# Altium integrated library Capacitor - Aluminium TH.IntLib: 4591 symbols (part 32 of 68)
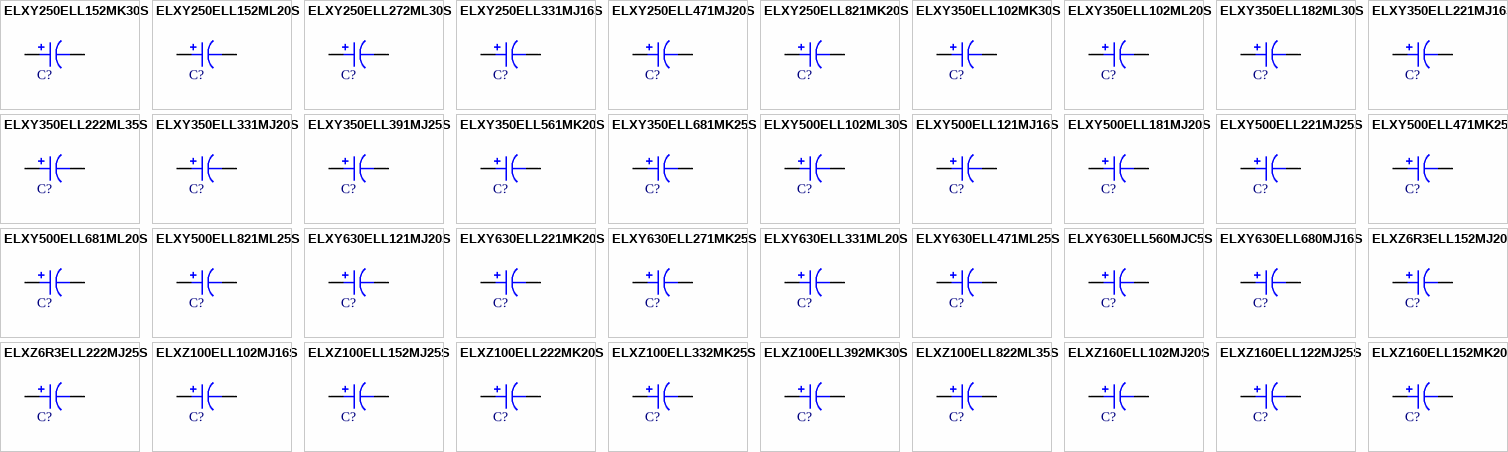
[diagram p145: symbols ELXY250ELL152MK30S to ELXZ160ELL152MK20S]

## ELXY250ELL152ML20S
designator C?, comment 1500uF  (value not drawn)
CAP ALUM 1500UF 20% 25V RADIAL; Part Number: ELXY250ELL152ML20S; Manufacturer: United Chemi-Con; TemperatureRange: -55C ~ 105C; Type: Polar; Ripple Current: 978mA @ 120Hz; Impedance: 38 mOhm; Value: 1500uF; PartId: 26310; Supplier 1: Digi-Key; Supplier Part Number 1: 565-1803-ND; ComponentLink1Description: Datasheet; ComponentLink1URL: http://www.chemi-con.co.jp/cgi-bin/CAT_DB/SEARCH/cat_db_al.cgi?e=e&j=p&pdfname=lxy; ComponentLink2Description: Digi-Key Listing; ComponentLink2URL: https://www.digikey.com/product-detail/en/united-chemi-con/ELXY250ELL152ML20S/565-1803-ND/756319; Tolerance: 20%; Voltage: 25V; Price: 1.17; Device Package: Radial, Can, 16mm
footprint CAP AL TH D16 L7.5 H20
pins: 1, 2

## ELXY250ELL272ML30S
designator C?, comment 2700uF  (value not drawn)
CAP ALUM 2700UF 20% 25V RADIAL; Part Number: ELXY250ELL272ML30S; Manufacturer: United Chemi-Con; TemperatureRange: -55C ~ 105C; Type: Polar; Ripple Current: 1.7625A @ 120Hz; Impedance: 25 mOhm; Value: 2700uF; PartId: 27061; Supplier 1: Digi-Key; Supplier Part Number 1: 565-1807-ND; ComponentLink1Description: Datasheet; ComponentLink1URL: http://www.chemi-con.co.jp/cgi-bin/CAT_DB/SEARCH/cat_db_al.cgi?e=e&j=p&pdfname=lxy; ComponentLink2Description: Digi-Key Listing; ComponentLink2URL: https://www.digikey.com/product-detail/en/united-chemi-con/ELXY250ELL272ML30S/565-1807-ND/756323; Tolerance: 20%; Voltage: 25V; Price: 1.6; Device Package: Radial, Can, 16mm
footprint CAP AL TH D16 L7.5 H33.5
pins: 1, 2

## ELXY250ELL331MJ16S
designator C?, comment 330uF  (value not drawn)
CAP ALUM 330UF 20% 25V RADIAL; Part Number: ELXY250ELL331MJ16S; Manufacturer: United Chemi-Con; TemperatureRange: -55C ~ 105C; Type: Polar; Ripple Current: 412.5mA @ 120Hz; Impedance: 84 mOhm; Value: 330uF; PartId: 25261; Supplier 1: Digi-Key; Supplier Part Number 1: 565-1795-ND; ComponentLink1Description: Datasheet; ComponentLink1URL: http://www.chemi-con.co.jp/cgi-bin/CAT_DB/SEARCH/cat_db_al.cgi?e=e&j=p&pdfname=lxy; ComponentLink2Description: Digi-Key Listing; ComponentLink2URL: https://www.digikey.com/product-detail/en/united-chemi-con/ELXY250ELL331MJ16S/565-1795-ND/756311; Tolerance: 20%; Voltage: 25V; Price: 0.59; Device Package: Radial, Can, 10mm
footprint CAP AL TH D10 L5 H17.5
pins: 1, 2

## ELXY250ELL471MJ20S
designator C?, comment 470uF  (value not drawn)
CAP ALUM 470UF 20% 25V RADIAL; Part Number: ELXY250ELL471MJ20S; Manufacturer: United Chemi-Con; TemperatureRange: -55C ~ 105C; Type: Polar; Ripple Current: 520mA @ 120Hz; Impedance: 62 mOhm; Value: 470uF; PartId: 25587; Supplier 1: Digi-Key; Supplier Part Number 1: 565-1797-ND; ComponentLink1Description: Datasheet; ComponentLink1URL: http://www.chemi-con.co.jp/cgi-bin/CAT_DB/SEARCH/cat_db_al.cgi?e=e&j=p&pdfname=lxy; ComponentLink2Description: Digi-Key Listing; ComponentLink2URL: https://www.digikey.com/product-detail/en/united-chemi-con/ELXY250ELL471MJ20S/565-1797-ND/756313; Tolerance: 20%; Voltage: 25V; Price: 0.68; Device Package: Radial, Can, 10mm
footprint CAP AL TH D10 L5 H22
pins: 1, 2

## ELXY250ELL821MK20S
designator C?, comment 820uF  (value not drawn)
CAP ALUM 820UF 20% 25V RADIAL; Part Number: ELXY250ELL821MK20S; Manufacturer: United Chemi-Con; TemperatureRange: -55C ~ 105C; Type: Polar; Ripple Current: 804mA @ 120Hz; Impedance: 46 mOhm; Value: 820uF; PartId: 22982; Supplier 1: Digi-Key; Supplier Part Number 1: 565-1800-ND; ComponentLink1Description: Datasheet; ComponentLink1URL: http://www.chemi-con.co.jp/cgi-bin/CAT_DB/SEARCH/cat_db_al.cgi?e=e&j=p&pdfname=lxy; ComponentLink2Description: Digi-Key Listing; ComponentLink2URL: https://www.digikey.com/product-detail/en/united-chemi-con/ELXY250ELL821MK20S/565-1800-ND/756316; Tolerance: 20%; Voltage: 25V; Price: 0; Device Package: Radial, Can, 12.5mm
footprint CAP AL TH D12.5 L5 H21.5
pins: 1, 2

## ELXY350ELL102MK30S
designator C?, comment 1000uF  (value not drawn)
CAP ALUM 1000UF 20% 35V RADIAL; Part Number: ELXY350ELL102MK30S; Manufacturer: United Chemi-Con; TemperatureRange: -55C ~ 105C; Type: Polar; Ripple Current: 1.17A @ 120Hz; Impedance: 30 mOhm; Value: 1000uF; PartId: 24263; Supplier 1: Digi-Key; Supplier Part Number 1: 565-1823-ND; ComponentLink1Description: Datasheet; ComponentLink1URL: http://www.chemi-con.co.jp/cgi-bin/CAT_DB/SEARCH/cat_db_al.cgi?e=e&j=p&pdfname=lxy; ComponentLink2Description: Digi-Key Listing; ComponentLink2URL: https://www.digikey.com/product-detail/en/united-chemi-con/ELXY350ELL102MK30S/565-1823-ND/756339; Tolerance: 20%; Voltage: 35V; Price: 1.04; Device Package: Radial, Can, 12.5mm
footprint CAP AL TH D12.5 L5 H35.5
pins: 1, 2

## ELXY350ELL102ML20S
designator C?, comment 1000uF  (value not drawn)
CAP ALUM 1000UF 20% 35V RADIAL; Part Number: ELXY350ELL102ML20S; Manufacturer: United Chemi-Con; TemperatureRange: -55C ~ 105C; Type: Polar; Ripple Current: 978mA @ 120Hz; Impedance: 38 mOhm; Value: 1000uF; PartId: 26313; Supplier 1: Digi-Key; Supplier Part Number 1: 565-1824-ND; ComponentLink1Description: Datasheet; ComponentLink1URL: http://www.chemi-con.co.jp/cgi-bin/CAT_DB/SEARCH/cat_db_al.cgi?e=e&j=p&pdfname=lxy; ComponentLink2Description: Digi-Key Listing; ComponentLink2URL: https://www.digikey.com/product-detail/en/united-chemi-con/ELXY350ELL102ML20S/565-1824-ND/756340; Tolerance: 20%; Voltage: 35V; Price: 1.21; Device Package: Radial, Can, 16mm
footprint CAP AL TH D16 L7.5 H20
pins: 1, 2

## ELXY350ELL182ML30S
designator C?, comment 1800uF  (value not drawn)
CAP ALUM 1800UF 20% 35V RADIAL; Part Number: ELXY350ELL182ML30S; Manufacturer: United Chemi-Con; TemperatureRange: -55C ~ 105C; Type: Polar; Ripple Current: 1.41A @ 120Hz; Impedance: 25 mOhm; Value: 1800uF; PartId: 27030; Supplier 1: Digi-Key; Supplier Part Number 1: 565-1828-ND; ComponentLink1Description: Datasheet; ComponentLink1URL: http://www.chemi-con.co.jp/cgi-bin/CAT_DB/SEARCH/cat_db_al.cgi?e=e&j=p&pdfname=lxy; ComponentLink2Description: Digi-Key Listing; ComponentLink2URL: https://www.digikey.com/product-detail/en/united-chemi-con/ELXY350ELL182ML30S/565-1828-ND/756344; Tolerance: 20%; Voltage: 35V; Price: 1.5; Device Package: Radial, Can, 16mm
footprint CAP AL TH D16 L7.5 H33.5
pins: 1, 2

## ELXY350ELL221MJ16S
designator C?, comment 220uF  (value not drawn)
CAP ALUM 220UF 20% 35V RADIAL; Part Number: ELXY350ELL221MJ16S; Manufacturer: United Chemi-Con; TemperatureRange: -55C ~ 105C; Type: Polar; Ripple Current: 412.5mA @ 120Hz; Impedance: 84 mOhm; Value: 220uF; PartId: 25273; Supplier 1: Digi-Key; Supplier Part Number 1: 565-1816-ND; ComponentLink1Description: Datasheet; ComponentLink1URL: http://www.chemi-con.co.jp/cgi-bin/CAT_DB/SEARCH/cat_db_al.cgi?e=e&j=p&pdfname=lxy; ComponentLink2Description: Digi-Key Listing; ComponentLink2URL: https://www.digikey.com/product-detail/en/united-chemi-con/ELXY350ELL221MJ16S/565-1816-ND/756332; Tolerance: 20%; Voltage: 35V; Price: 0.61; Device Package: Radial, Can, 10mm
footprint CAP AL TH D10 L5 H17.5
pins: 1, 2

## ELXY350ELL222ML35S
designator C?, comment 2200uF  (value not drawn)
CAP ALUM 2200UF 20% 35V RADIAL; Part Number: ELXY350ELL222ML35S; Manufacturer: United Chemi-Con; TemperatureRange: -55C ~ 105C; Type: Polar; Ripple Current: 1.9125A @ 120Hz; Impedance: 22 mOhm; Value: 2200uF; PartId: 27345; Supplier 1: Digi-Key; Supplier Part Number 1: 565-1829-ND; ComponentLink1Description: Datasheet; ComponentLink1URL: http://www.chemi-con.co.jp/cgi-bin/CAT_DB/SEARCH/cat_db_al.cgi?e=e&j=p&pdfname=lxy; ComponentLink2Description: Digi-Key Listing; ComponentLink2URL: https://www.digikey.com/product-detail/en/united-chemi-con/ELXY350ELL222ML35S/565-1829-ND/756345; Tolerance: 20%; Voltage: 35V; Price: 1.7; Device Package: Radial, Can, 16mm
footprint CAP AL TH D16 L7.5 H37
pins: 1, 2

## ELXY350ELL331MJ20S
designator C?, comment 330uF  (value not drawn)
CAP ALUM 330UF 20% 35V RADIAL; Part Number: ELXY350ELL331MJ20S; Manufacturer: United Chemi-Con; TemperatureRange: -55C ~ 105C; Type: Polar; Ripple Current: 520mA @ 120Hz; Impedance: 62 mOhm; Value: 330uF; PartId: 25607; Supplier 1: Digi-Key; Supplier Part Number 1: 565-1818-ND; ComponentLink1Description: Datasheet; ComponentLink1URL: http://www.chemi-con.co.jp/cgi-bin/CAT_DB/SEARCH/cat_db_al.cgi?e=e&j=p&pdfname=lxy; ComponentLink2Description: Digi-Key Listing; ComponentLink2URL: https://www.digikey.com/product-detail/en/united-chemi-con/ELXY350ELL331MJ20S/565-1818-ND/756334; Tolerance: 20%; Voltage: 35V; Price: 0.69; Device Package: Radial, Can, 10mm
footprint CAP AL TH D10 L5 H22
pins: 1, 2

## ELXY350ELL391MJ25S
designator C?, comment 390uF  (value not drawn)
CAP ALUM 390UF 20% 35V RADIAL; Part Number: ELXY350ELL391MJ25S; Manufacturer: United Chemi-Con; TemperatureRange: -55C ~ 105C; Type: Polar; Ripple Current: 630mA @ 120Hz; Impedance: 52 mOhm; Value: 390uF; PartId: 26066; Supplier 1: Digi-Key; Supplier Part Number 1: 565-1819-ND; ComponentLink1Description: Datasheet; ComponentLink1URL: http://www.chemi-con.co.jp/cgi-bin/CAT_DB/SEARCH/cat_db_al.cgi?e=e&j=p&pdfname=lxy; ComponentLink2Description: Digi-Key Listing; ComponentLink2URL: https://www.digikey.com/product-detail/en/united-chemi-con/ELXY350ELL391MJ25S/565-1819-ND/756335; Tolerance: 20%; Voltage: 35V; Price: 0.69; Device Package: Radial, Can, 10mm
footprint CAP AL TH D10 L5 H30
pins: 1, 2

## ELXY350ELL561MK20S
designator C?, comment 560uF  (value not drawn)
CAP ALUM 560UF 20% 35V RADIAL; Part Number: ELXY350ELL561MK20S; Manufacturer: United Chemi-Con; TemperatureRange: -55C ~ 105C; Type: Polar; Ripple Current: 670mA @ 120Hz; Impedance: 46 mOhm; Value: 560uF; PartId: 22989; Supplier 1: Digi-Key; Supplier Part Number 1: 565-1821-ND; ComponentLink1Description: Datasheet; ComponentLink1URL: http://www.chemi-con.co.jp/cgi-bin/CAT_DB/SEARCH/cat_db_al.cgi?e=e&j=p&pdfname=lxy; ComponentLink2Description: Digi-Key Listing; ComponentLink2URL: https://www.digikey.com/product-detail/en/united-chemi-con/ELXY350ELL561MK20S/565-1821-ND/756337; Tolerance: 20%; Voltage: 35V; Price: 0; Device Package: Radial, Can, 12.5mm
footprint CAP AL TH D12.5 L5 H21.5
pins: 1, 2

## ELXY350ELL681MK25S
designator C?, comment 680uF  (value not drawn)
CAP ALUM 680UF 20% 35V RADIAL; Part Number: ELXY350ELL681MK25S; Manufacturer: United Chemi-Con; TemperatureRange: -55C ~ 105C; Type: Polar; Ripple Current: 1.014A @ 120Hz; Impedance: 34 mOhm; Value: 680uF; PartId: 23688; Supplier 1: Digi-Key; Supplier Part Number 1: 565-1822-ND; ComponentLink1Description: Datasheet; ComponentLink1URL: http://www.chemi-con.co.jp/cgi-bin/CAT_DB/SEARCH/cat_db_al.cgi?e=e&j=p&pdfname=lxy; ComponentLink2Description: Digi-Key Listing; ComponentLink2URL: https://www.digikey.com/product-detail/en/united-chemi-con/ELXY350ELL681MK25S/565-1822-ND/756338; Tolerance: 20%; Voltage: 35V; Price: 1.04; Device Package: Radial, Can, 12.5mm
footprint CAP AL TH D12.5 L5 H26.5
pins: 1, 2

## ELXY500ELL102ML30S
designator C?, comment 1000uF  (value not drawn)
CAP ALUM 1000UF 20% 50V RADIAL; Part Number: ELXY500ELL102ML30S; Manufacturer: United Chemi-Con; TemperatureRange: -55C ~ 105C; Type: Polar; Ripple Current: 1.29A @ 120Hz; Impedance: 30 mOhm; Value: 1000uF; PartId: 27025; Supplier 1: Digi-Key; Supplier Part Number 1: 565-1849-ND; ComponentLink1Description: Datasheet; ComponentLink1URL: http://www.chemi-con.co.jp/cgi-bin/CAT_DB/SEARCH/cat_db_al.cgi?e=e&j=p&pdfname=lxy; ComponentLink2Description: Digi-Key Listing; ComponentLink2URL: https://www.digikey.com/product-detail/en/united-chemi-con/ELXY500ELL102ML30S/565-1849-ND/756365; Tolerance: 20%; Voltage: 50V; Price: 1.48; Device Package: Radial, Can, 16mm
footprint CAP AL TH D16 L7.5 H33.5
pins: 1, 2

## ELXY500ELL121MJ16S
designator C?, comment 120uF  (value not drawn)
CAP ALUM 120UF 20% 50V RADIAL; Part Number: ELXY500ELL121MJ16S; Manufacturer: United Chemi-Con; TemperatureRange: -55C ~ 105C; Type: Polar; Ripple Current: 302mA @ 120Hz; Impedance: 130 mOhm; Value: 120uF; PartId: 25266; Supplier 1: Digi-Key; Supplier Part Number 1: 565-1837-ND; ComponentLink1Description: Datasheet; ComponentLink1URL: http://www.chemi-con.co.jp/cgi-bin/CAT_DB/SEARCH/cat_db_al.cgi?e=e&j=p&pdfname=lxy; ComponentLink2Description: Digi-Key Listing; ComponentLink2URL: https://www.digikey.com/product-detail/en/united-chemi-con/ELXY500ELL121MJ16S/565-1837-ND/756353; Tolerance: 20%; Voltage: 50V; Price: 0.6; Device Package: Radial, Can, 10mm
footprint CAP AL TH D10 L5 H17.5
pins: 1, 2

## ELXY500ELL181MJ20S
designator C?, comment 180uF  (value not drawn)
CAP ALUM 180UF 20% 50V RADIAL; Part Number: ELXY500ELL181MJ20S; Manufacturer: United Chemi-Con; TemperatureRange: -55C ~ 105C; Type: Polar; Ripple Current: 378mA @ 120Hz; Impedance: 88 mOhm; Value: 180uF; PartId: 25602; Supplier 1: Digi-Key; Supplier Part Number 1: 565-1839-ND; ComponentLink1Description: Datasheet; ComponentLink1URL: http://www.chemi-con.co.jp/cgi-bin/CAT_DB/SEARCH/cat_db_al.cgi?e=e&j=p&pdfname=lxy; ComponentLink2Description: Digi-Key Listing; ComponentLink2URL: https://www.digikey.com/product-detail/en/united-chemi-con/ELXY500ELL181MJ20S/565-1839-ND/756355; Tolerance: 20%; Voltage: 50V; Price: 0.69; Device Package: Radial, Can, 10mm
footprint CAP AL TH D10 L5 H22
pins: 1, 2

## ELXY500ELL221MJ25S
designator C?, comment 220uF  (value not drawn)
CAP ALUM 220UF 20% 50V RADIAL; Part Number: ELXY500ELL221MJ25S; Manufacturer: United Chemi-Con; TemperatureRange: -55C ~ 105C; Type: Polar; Ripple Current: 575mA @ 120Hz; Impedance: 73 mOhm; Value: 220uF; PartId: 26062; Supplier 1: Digi-Key; Supplier Part Number 1: 565-1840-ND; ComponentLink1Description: Datasheet; ComponentLink1URL: http://www.chemi-con.co.jp/cgi-bin/CAT_DB/SEARCH/cat_db_al.cgi?e=e&j=p&pdfname=lxy; ComponentLink2Description: Digi-Key Listing; ComponentLink2URL: https://www.digikey.com/product-detail/en/united-chemi-con/ELXY500ELL221MJ25S/565-1840-ND/756356; Tolerance: 20%; Voltage: 50V; Price: 0.68; Device Package: Radial, Can, 10mm
footprint CAP AL TH D10 L5 H30
pins: 1, 2

## ELXY500ELL471MK25S
designator C?, comment 470uF  (value not drawn)
CAP ALUM 470UF 20% 50V RADIAL; Part Number: ELXY500ELL471MK25S; Manufacturer: United Chemi-Con; TemperatureRange: -55C ~ 105C; Type: Polar; Ripple Current: 745mA @ 120Hz; Impedance: 44 mOhm; Value: 470uF; PartId: 23678; Supplier 1: Digi-Key; Supplier Part Number 1: 565-1843-ND; ComponentLink1Description: Datasheet; ComponentLink1URL: http://www.chemi-con.co.jp/cgi-bin/CAT_DB/SEARCH/cat_db_al.cgi?e=e&j=p&pdfname=lxy; ComponentLink2Description: Digi-Key Listing; ComponentLink2URL: https://www.digikey.com/product-detail/en/united-chemi-con/ELXY500ELL471MK25S/565-1843-ND/756359; Tolerance: 20%; Voltage: 50V; Price: 1.02; Device Package: Radial, Can, 12.5mm
footprint CAP AL TH D12.5 L5 H26.5
pins: 1, 2

## ELXY500ELL681ML20S
designator C?, comment 680uF  (value not drawn)
CAP ALUM 680UF 20% 50V RADIAL; Part Number: ELXY500ELL681ML20S; Manufacturer: United Chemi-Con; TemperatureRange: -55C ~ 105C; Type: Polar; Ripple Current: 852mA @ 120Hz; Impedance: 50 mOhm; Value: 680uF; PartId: 26314; Supplier 1: Digi-Key; Supplier Part Number 1: 565-1846-ND; ComponentLink1Description: Datasheet; ComponentLink1URL: http://www.chemi-con.co.jp/cgi-bin/CAT_DB/SEARCH/cat_db_al.cgi?e=e&j=p&pdfname=lxy; ComponentLink2Description: Digi-Key Listing; ComponentLink2URL: https://www.digikey.com/product-detail/en/united-chemi-con/ELXY500ELL681ML20S/565-1846-ND/756362; Tolerance: 20%; Voltage: 50V; Price: 1.23; Device Package: Radial, Can, 16mm
footprint CAP AL TH D16 L7.5 H20
pins: 1, 2

## ELXY500ELL821ML25S
designator C?, comment 820uF  (value not drawn)
CAP ALUM 820UF 20% 50V RADIAL; Part Number: ELXY500ELL821ML25S; Manufacturer: United Chemi-Con; TemperatureRange: -55C ~ 105C; Type: Polar; Ripple Current: 1.128A @ 120Hz; Impedance: 34 mOhm; Value: 820uF; PartId: 26612; Supplier 1: Digi-Key; Supplier Part Number 1: 565-1848-ND; ComponentLink1Description: Datasheet; ComponentLink1URL: http://www.chemi-con.co.jp/cgi-bin/CAT_DB/SEARCH/cat_db_al.cgi?e=e&j=p&pdfname=lxy; ComponentLink2Description: Digi-Key Listing; ComponentLink2URL: https://www.digikey.com/product-detail/en/united-chemi-con/ELXY500ELL821ML25S/565-1848-ND/756364; Tolerance: 20%; Voltage: 50V; Price: 1.38; Device Package: Radial, Can, 16mm
footprint CAP AL TH D16 L7.5 H26.5
pins: 1, 2

## ELXY630ELL121MJ20S
designator C?, comment 120uF  (value not drawn)
CAP ALUM 120UF 20% 63V RADIAL; Part Number: ELXY630ELL121MJ20S; Manufacturer: United Chemi-Con; TemperatureRange: -55C ~ 105C; Type: Polar; Ripple Current: 260mA @ 120Hz; Impedance: 160 mOhm; Value: 120uF; PartId: 25521; Supplier 1: Digi-Key; Supplier Part Number 1: 565-1860-ND; ComponentLink1Description: Datasheet; ComponentLink1URL: http://www.chemi-con.co.jp/cgi-bin/CAT_DB/SEARCH/cat_db_al.cgi?e=e&j=p&pdfname=lxy; ComponentLink2Description: Digi-Key Listing; ComponentLink2URL: https://www.digikey.com/product-detail/en/united-chemi-con/ELXY630ELL121MJ20S/565-1860-ND/756376; Tolerance: 20%; Voltage: 63V; Price: 0.59; Device Package: Radial, Can, 10mm
footprint CAP AL TH D10 L5 H22
pins: 1, 2

## ELXY630ELL221MK20S
designator C?, comment 220uF  (value not drawn)
CAP ALUM 220UF 20% 63V RADIAL; Part Number: ELXY630ELL221MK20S; Manufacturer: United Chemi-Con; TemperatureRange: -55C ~ 105C; Type: Polar; Ripple Current: 435mA @ 120Hz; Impedance: 110 mOhm; Value: 220uF; PartId: 22966; Supplier 1: Digi-Key; Supplier Part Number 1: 565-1863-ND; ComponentLink1Description: Datasheet; ComponentLink1URL: http://www.chemi-con.co.jp/cgi-bin/CAT_DB/SEARCH/cat_db_al.cgi?e=e&j=p&pdfname=lxy; ComponentLink2Description: Digi-Key Listing; ComponentLink2URL: https://www.digikey.com/product-detail/en/united-chemi-con/ELXY630ELL221MK20S/565-1863-ND/756379; Tolerance: 20%; Voltage: 63V; Price: 0; Device Package: Radial, Can, 12.5mm
footprint CAP AL TH D12.5 L5 H21.5
pins: 1, 2

## ELXY630ELL271MK25S
designator C?, comment 270uF  (value not drawn)
CAP ALUM 270UF 20% 63V RADIAL; Part Number: ELXY630ELL271MK25S; Manufacturer: United Chemi-Con; TemperatureRange: -55C ~ 105C; Type: Polar; Ripple Current: 575mA @ 120Hz; Impedance: 74 mOhm; Value: 270uF; PartId: 23653; Supplier 1: Digi-Key; Supplier Part Number 1: 565-1864-ND; ComponentLink1Description: Datasheet; ComponentLink1URL: http://www.chemi-con.co.jp/cgi-bin/CAT_DB/SEARCH/cat_db_al.cgi?e=e&j=p&pdfname=lxy; ComponentLink2Description: Digi-Key Listing; ComponentLink2URL: https://www.digikey.com/product-detail/en/united-chemi-con/ELXY630ELL271MK25S/565-1864-ND/756380; Tolerance: 20%; Voltage: 63V; Price: 0.86; Device Package: Radial, Can, 12.5mm
footprint CAP AL TH D12.5 L5 H26.5
pins: 1, 2

## ELXY630ELL331ML20S
designator C?, comment 330uF  (value not drawn)
CAP ALUM 330UF 20% 63V RADIAL; Part Number: ELXY630ELL331ML20S; Manufacturer: United Chemi-Con; TemperatureRange: -55C ~ 105C; Type: Polar; Ripple Current: 550mA @ 120Hz; Impedance: 85 mOhm; Value: 330uF; PartId: 26288; Supplier 1: Digi-Key; Supplier Part Number 1: 565-1865-ND; ComponentLink1Description: Datasheet; ComponentLink1URL: http://www.chemi-con.co.jp/cgi-bin/CAT_DB/SEARCH/cat_db_al.cgi?e=e&j=p&pdfname=lxy; ComponentLink2Description: Digi-Key Listing; ComponentLink2URL: https://www.digikey.com/product-detail/en/united-chemi-con/ELXY630ELL331ML20S/565-1865-ND/756381; Tolerance: 20%; Voltage: 63V; Price: 1.05; Device Package: Radial, Can, 16mm
footprint CAP AL TH D16 L7.5 H20
pins: 1, 2

## ELXY630ELL471ML25S
designator C?, comment 470uF  (value not drawn)
CAP ALUM 470UF 20% 63V RADIAL; Part Number: ELXY630ELL471ML25S; Manufacturer: United Chemi-Con; TemperatureRange: -55C ~ 105C; Type: Polar; Ripple Current: 740mA @ 120Hz; Impedance: 55 mOhm; Value: 470uF; PartId: 26569; Supplier 1: Digi-Key; Supplier Part Number 1: 565-1868-ND; ComponentLink1Description: Datasheet; ComponentLink1URL: http://www.chemi-con.co.jp/cgi-bin/CAT_DB/SEARCH/cat_db_al.cgi?e=e&j=p&pdfname=lxy; ComponentLink2Description: Digi-Key Listing; ComponentLink2URL: https://www.digikey.com/product-detail/en/united-chemi-con/ELXY630ELL471ML25S/565-1868-ND/756384; Tolerance: 20%; Voltage: 63V; Price: 1.17; Device Package: Radial, Can, 16mm
footprint CAP AL TH D16 L7.5 H26.5
pins: 1, 2

## ELXY630ELL560MJC5S
designator C?, comment 56uF  (value not drawn)
CAP ALUM 56UF 20% 63V RADIAL; Part Number: ELXY630ELL560MJC5S; Manufacturer: United Chemi-Con; TemperatureRange: -55C ~ 105C; Type: Polar; Ripple Current: 167.2mA @ 120Hz; Impedance: 270 mOhm; Value: 56uF; PartId: 24876; Supplier 1: Digi-Key; Supplier Part Number 1: 565-1856-ND; ComponentLink1Description: Datasheet; ComponentLink1URL: http://www.chemi-con.co.jp/cgi-bin/CAT_DB/SEARCH/cat_db_al.cgi?e=e&j=p&pdfname=lxy; ComponentLink2Description: Digi-Key Listing; ComponentLink2URL: https://www.digikey.com/product-detail/en/united-chemi-con/ELXY630ELL560MJC5S/565-1856-ND/756372; Tolerance: 20%; Voltage: 63V; Price: 0.48; Device Package: Radial, Can, 10mm
footprint CAP AL TH D10 L5 H14.5
pins: 1, 2

## ELXY630ELL680MJ16S
designator C?, comment 68uF  (value not drawn)
CAP ALUM 68UF 20% 63V RADIAL; Part Number: ELXY630ELL680MJ16S; Manufacturer: United Chemi-Con; TemperatureRange: -55C ~ 105C; Type: Polar; Ripple Current: 210mA @ 120Hz; Impedance: 210 mOhm; Value: 68uF; PartId: 25239; Supplier 1: Digi-Key; Supplier Part Number 1: 565-1857-ND; ComponentLink1Description: Datasheet; ComponentLink1URL: http://www.chemi-con.co.jp/cgi-bin/CAT_DB/SEARCH/cat_db_al.cgi?e=e&j=p&pdfname=lxy; ComponentLink2Description: Digi-Key Listing; ComponentLink2URL: https://www.digikey.com/product-detail/en/united-chemi-con/ELXY630ELL680MJ16S/565-1857-ND/756373; Tolerance: 20%; Voltage: 63V; Price: 0.56; Device Package: Radial, Can, 10mm
footprint CAP AL TH D10 L5 H17.5
pins: 1, 2

## ELXZ6R3ELL152MJ20S
designator C?, comment 1500uF  (value not drawn)
CAP ALUM 1500UF 20% 6.3V RADIAL; Part Number: ELXZ6R3ELL152MJ20S; Manufacturer: United Chemi-Con; TemperatureRange: -55C ~ 105C; Type: Polar; Ripple Current: 732mA @ 120Hz; Impedance: 52 mOhm; Value: 1500uF; PartId: 25539; Supplier 1: Digi-Key; Supplier Part Number 1: 565-1881-ND; ComponentLink1Description: Datasheet; ComponentLink1URL: http://www.chemi-con.co.jp/cgi-bin/CAT_DB/SEARCH/cat_db_al.cgi?e=e&j=p&pdfname=lxz; ComponentLink2Description: Digi-Key Listing; ComponentLink2URL: https://www.digikey.com/product-detail/en/united-chemi-con/ELXZ6R3ELL152MJ20S/565-1881-ND/756397; Tolerance: 20%; Voltage: 6.3V; Price: 0.62; Device Package: Radial, Can, 10mm
footprint CAP AL TH D10 L5 H22
pins: 1, 2

## ELXZ6R3ELL222MJ25S
designator C?, comment 2200uF  (value not drawn)
CAP ALUM 2200UF 20% 6.3V RADIAL; Part Number: ELXZ6R3ELL222MJ25S; Manufacturer: United Chemi-Con; TemperatureRange: -55C ~ 105C; Type: Polar; Ripple Current: 1.08A @ 120Hz; Impedance: 45 mOhm; Value: 2200uF; PartId: 26103; Supplier 1: Digi-Key; Supplier Part Number 1: 565-1882-ND; ComponentLink1Description: Datasheet; ComponentLink1URL: http://www.chemi-con.co.jp/cgi-bin/CAT_DB/SEARCH/cat_db_al.cgi?e=e&j=p&pdfname=lxz; ComponentLink2Description: Digi-Key Listing; ComponentLink2URL: https://www.digikey.com/product-detail/en/united-chemi-con/ELXZ6R3ELL222MJ25S/565-1882-ND/756398; Tolerance: 20%; Voltage: 6.3V; Price: 0.76; Device Package: Radial, Can, 10mm
footprint CAP AL TH D10 L5 H30
pins: 1, 2

## ELXZ100ELL102MJ16S
designator C?, comment 1000uF  (value not drawn)
CAP ALUM 1000UF 20% 10V RADIAL; Part Number: ELXZ100ELL102MJ16S; Manufacturer: United Chemi-Con; TemperatureRange: -55C ~ 105C; Type: Polar; Ripple Current: 630mA @ 120Hz; Impedance: 68 mOhm; Value: 1000uF; PartId: 25307; Supplier 1: Digi-Key; Supplier Part Number 1: 565-1905-ND; ComponentLink1Description: Datasheet; ComponentLink1URL: http://www.chemi-con.co.jp/cgi-bin/CAT_DB/SEARCH/cat_db_al.cgi?e=e&j=p&pdfname=lxz; ComponentLink2Description: Digi-Key Listing; ComponentLink2URL: https://www.digikey.com/product-detail/en/united-chemi-con/ELXZ100ELL102MJ16S/565-1905-ND/756421; Tolerance: 20%; Voltage: 10V; Price: 0.65; Device Package: Radial, Can, 10mm
footprint CAP AL TH D10 L5 H17.5
pins: 1, 2

## ELXZ100ELL152MJ25S
designator C?, comment 1500uF  (value not drawn)
CAP ALUM 1500UF 20% 10V RADIAL; Part Number: ELXZ100ELL152MJ25S; Manufacturer: United Chemi-Con; TemperatureRange: -55C ~ 105C; Type: Polar; Ripple Current: 864mA @ 120Hz; Impedance: 45 mOhm; Value: 1500uF; PartId: 26107; Supplier 1: Digi-Key; Supplier Part Number 1: 565-1908-ND; ComponentLink1Description: Datasheet; ComponentLink1URL: http://www.chemi-con.co.jp/cgi-bin/CAT_DB/SEARCH/cat_db_al.cgi?e=e&j=p&pdfname=lxz; ComponentLink2Description: Digi-Key Listing; ComponentLink2URL: https://www.digikey.com/product-detail/en/united-chemi-con/ELXZ100ELL152MJ25S/565-1908-ND/756424; Tolerance: 20%; Voltage: 10V; Price: 0.76; Device Package: Radial, Can, 10mm
footprint CAP AL TH D10 L5 H30
pins: 1, 2

## ELXZ100ELL222MK20S
designator C?, comment 2200uF  (value not drawn)
CAP ALUM 2200UF 20% 10V RADIAL; Part Number: ELXZ100ELL222MK20S; Manufacturer: United Chemi-Con; TemperatureRange: -55C ~ 105C; Type: Polar; Ripple Current: 1.245A @ 120Hz; Impedance: 38 mOhm; Value: 2200uF; PartId: 23000; Supplier 1: Digi-Key; Supplier Part Number 1: 565-1910-ND; ComponentLink1Description: Datasheet; ComponentLink1URL: http://www.chemi-con.co.jp/cgi-bin/CAT_DB/SEARCH/cat_db_al.cgi?e=e&j=p&pdfname=lxz; ComponentLink2Description: Digi-Key Listing; ComponentLink2URL: https://www.digikey.com/product-detail/en/united-chemi-con/ELXZ100ELL222MK20S/565-1910-ND/756426; Tolerance: 20%; Voltage: 10V; Price: 0; Device Package: Radial, Can, 12.5mm
footprint CAP AL TH D12.5 L5 H21.5
pins: 1, 2

## ELXZ100ELL332MK25S
designator C?, comment 3300uF  (value not drawn)
CAP ALUM 3300UF 20% 10V RADIAL; Part Number: ELXZ100ELL332MK25S; Manufacturer: United Chemi-Con; TemperatureRange: -55C ~ 105C; Type: Polar; Ripple Current: 1.4625A @ 120Hz; Impedance: 30 mOhm; Value: 3300uF; PartId: 23680; Supplier 1: Digi-Key; Supplier Part Number 1: 565-1911-ND; ComponentLink1Description: Datasheet; ComponentLink1URL: http://www.chemi-con.co.jp/cgi-bin/CAT_DB/SEARCH/cat_db_al.cgi?e=e&j=p&pdfname=lxz; ComponentLink2Description: Digi-Key Listing; ComponentLink2URL: https://www.digikey.com/product-detail/en/united-chemi-con/ELXZ100ELL332MK25S/565-1911-ND/756427; Tolerance: 20%; Voltage: 10V; Price: 1.02; Device Package: Radial, Can, 12.5mm
footprint CAP AL TH D12.5 L5 H26.5
pins: 1, 2

## ELXZ100ELL392MK30S
designator C?, comment 3900uF  (value not drawn)
CAP ALUM 3900UF 20% 10V RADIAL; Part Number: ELXZ100ELL392MK30S; Manufacturer: United Chemi-Con; TemperatureRange: -55C ~ 105C; Type: Polar; Ripple Current: 1.7325A @ 120Hz; Impedance: 25 mOhm; Value: 3900uF; PartId: 24289; Supplier 1: Digi-Key; Supplier Part Number 1: 565-1912-ND; ComponentLink1Description: Datasheet; ComponentLink1URL: http://www.chemi-con.co.jp/cgi-bin/CAT_DB/SEARCH/cat_db_al.cgi?e=e&j=p&pdfname=lxz; ComponentLink2Description: Digi-Key Listing; ComponentLink2URL: https://www.digikey.com/product-detail/en/united-chemi-con/ELXZ100ELL392MK30S/565-1912-ND/756428; Tolerance: 20%; Voltage: 10V; Price: 1.12; Device Package: Radial, Can, 12.5mm
footprint CAP AL TH D12.5 L5 H35.5
pins: 1, 2

## ELXZ100ELL822ML35S
designator C?, comment 8200uF  (value not drawn)
CAP ALUM 8200UF 20% 10V RADIAL; Part Number: ELXZ100ELL822ML35S; Manufacturer: United Chemi-Con; TemperatureRange: -55C ~ 105C; Type: Polar; Ripple Current: 2.6775A @ 120Hz; Impedance: 17 mOhm; Value: 8200uF; PartId: 27347; Supplier 1: Digi-Key; Supplier Part Number 1: 565-1920-ND; ComponentLink1Description: Datasheet; ComponentLink1URL: http://www.chemi-con.co.jp/cgi-bin/CAT_DB/SEARCH/cat_db_al.cgi?e=e&j=p&pdfname=lxz; ComponentLink2Description: Digi-Key Listing; ComponentLink2URL: https://www.digikey.com/product-detail/en/united-chemi-con/ELXZ100ELL822ML35S/565-1920-ND/756436; Tolerance: 20%; Voltage: 10V; Price: 1.71; Device Package: Radial, Can, 16mm
footprint CAP AL TH D16 L7.5 H37
pins: 1, 2

## ELXZ160ELL102MJ20S
designator C?, comment 1000uF  (value not drawn)
CAP ALUM 1000UF 20% 16V RADIAL; Part Number: ELXZ160ELL102MJ20S; Manufacturer: United Chemi-Con; TemperatureRange: -55C ~ 105C; Type: Polar; Ripple Current: 732mA @ 120Hz; Impedance: 52 mOhm; Value: 1000uF; PartId: 25648; Supplier 1: Digi-Key; Supplier Part Number 1: 565-1933-ND; ComponentLink1Description: Datasheet; ComponentLink1URL: http://www.chemi-con.co.jp/cgi-bin/CAT_DB/SEARCH/cat_db_al.cgi?e=e&j=p&pdfname=lxz; ComponentLink2Description: Digi-Key Listing; ComponentLink2URL: https://www.digikey.com/product-detail/en/united-chemi-con/ELXZ160ELL102MJ20S/565-1933-ND/756449; Tolerance: 20%; Voltage: 16V; Price: 0.74; Device Package: Radial, Can, 10mm
footprint CAP AL TH D10 L5 H22
pins: 1, 2

## ELXZ160ELL122MJ25S
designator C?, comment 1200uF  (value not drawn)
CAP ALUM 1200UF 20% 16V RADIAL; Part Number: ELXZ160ELL122MJ25S; Manufacturer: United Chemi-Con; TemperatureRange: -55C ~ 105C; Type: Polar; Ripple Current: 864mA @ 120Hz; Impedance: 45 mOhm; Value: 1200uF; PartId: 26105; Supplier 1: Digi-Key; Supplier Part Number 1: 565-1934-ND; ComponentLink1Description: Datasheet; ComponentLink1URL: http://www.chemi-con.co.jp/cgi-bin/CAT_DB/SEARCH/cat_db_al.cgi?e=e&j=p&pdfname=lxz; ComponentLink2Description: Digi-Key Listing; ComponentLink2URL: https://www.digikey.com/product-detail/en/united-chemi-con/ELXZ160ELL122MJ25S/565-1934-ND/756450; Tolerance: 20%; Voltage: 16V; Price: 0.76; Device Package: Radial, Can, 10mm
footprint CAP AL TH D10 L5 H30
pins: 1, 2

## ELXZ160ELL152MK20S
designator C?, comment 1500uF  (value not drawn)
CAP ALUM 1500UF 20% 16V RADIAL; Part Number: ELXZ160ELL152MK20S; Manufacturer: United Chemi-Con; TemperatureRange: -55C ~ 105C; Type: Polar; Ripple Current: 996mA @ 120Hz; Impedance: 38 mOhm; Value: 1500uF; PartId: 23003; Supplier 1: Digi-Key; Supplier Part Number 1: 565-1936-ND; ComponentLink1Description: Datasheet; ComponentLink1URL: http://www.chemi-con.co.jp/cgi-bin/CAT_DB/SEARCH/cat_db_al.cgi?e=e&j=p&pdfname=lxz; ComponentLink2Description: Digi-Key Listing; ComponentLink2URL: https://www.digikey.com/product-detail/en/united-chemi-con/ELXZ160ELL152MK20S/565-1936-ND/756452; Tolerance: 20%; Voltage: 16V; Price: 0; Device Package: Radial, Can, 12.5mm
footprint CAP AL TH D12.5 L5 H21.5
pins: 1, 2

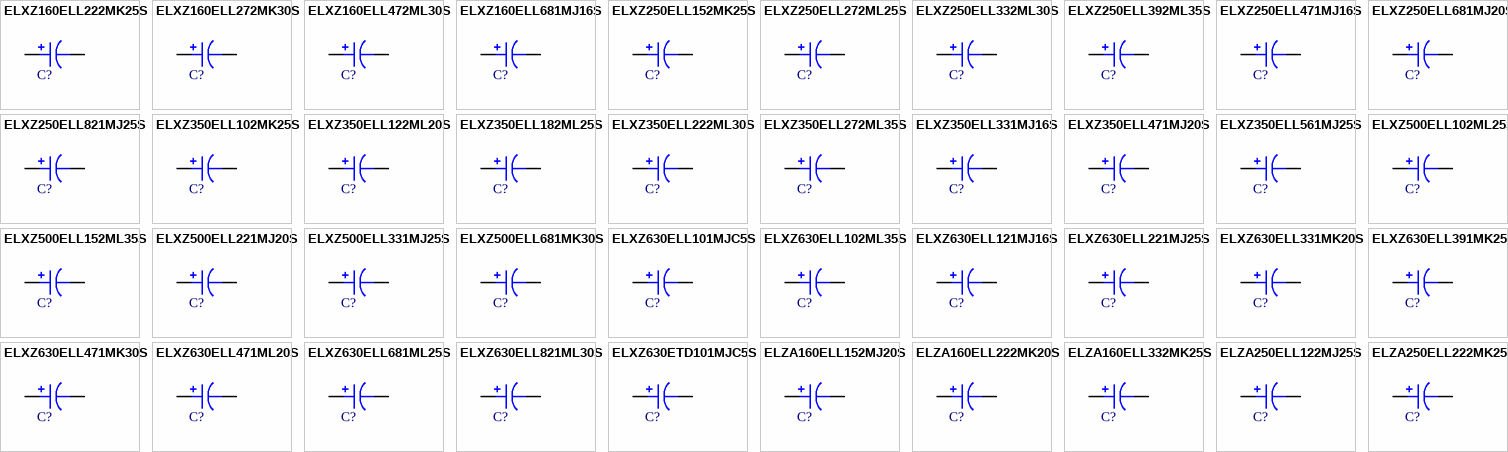
[diagram p52: symbols ELXZ160ELL222MK25S to ELZA250ELL222MK25S]

## ELXZ160ELL222MK25S
designator C?, comment 2200uF  (value not drawn)
CAP ALUM 2200UF 20% 16V RADIAL; Part Number: ELXZ160ELL222MK25S; Manufacturer: United Chemi-Con; TemperatureRange: -55C ~ 105C; Type: Polar; Ripple Current: 1.4625A @ 120Hz; Impedance: 30 mOhm; Value: 2200uF; PartId: 23685; Supplier 1: Digi-Key; Supplier Part Number 1: 565-1937-ND; ComponentLink1Description: Datasheet; ComponentLink1URL: http://www.chemi-con.co.jp/cgi-bin/CAT_DB/SEARCH/cat_db_al.cgi?e=e&j=p&pdfname=lxz; ComponentLink2Description: Digi-Key Listing; ComponentLink2URL: https://www.digikey.com/product-detail/en/united-chemi-con/ELXZ160ELL222MK25S/565-1937-ND/756453; Tolerance: 20%; Voltage: 16V; Price: 1.03; Device Package: Radial, Can, 12.5mm
footprint CAP AL TH D12.5 L5 H26.5
pins: 1, 2

## ELXZ160ELL272MK30S
designator C?, comment 2700uF  (value not drawn)
CAP ALUM 2700UF 20% 16V RADIAL; Part Number: ELXZ160ELL272MK30S; Manufacturer: United Chemi-Con; TemperatureRange: -55C ~ 105C; Type: Polar; Ripple Current: 1.7325A @ 120Hz; Impedance: 25 mOhm; Value: 2700uF; PartId: 24287; Supplier 1: Digi-Key; Supplier Part Number 1: 565-1938-ND; ComponentLink1Description: Datasheet; ComponentLink1URL: http://www.chemi-con.co.jp/cgi-bin/CAT_DB/SEARCH/cat_db_al.cgi?e=e&j=p&pdfname=lxz; ComponentLink2Description: Digi-Key Listing; ComponentLink2URL: https://www.digikey.com/product-detail/en/united-chemi-con/ELXZ160ELL272MK30S/565-1938-ND/756454; Tolerance: 20%; Voltage: 16V; Price: 1.12; Device Package: Radial, Can, 12.5mm
footprint CAP AL TH D12.5 L5 H35.5
pins: 1, 2

## ELXZ160ELL472ML30S
designator C?, comment 4700uF  (value not drawn)
CAP ALUM 4700UF 20% 16V RADIAL; Part Number: ELXZ160ELL472ML30S; Manufacturer: United Chemi-Con; TemperatureRange: -55C ~ 105C; Type: Polar; Ripple Current: 2.5585A @ 120Hz; Impedance: 19 mOhm; Value: 4700uF; PartId: 27124; Supplier 1: Digi-Key; Supplier Part Number 1: 565-1944-ND; ComponentLink1Description: Datasheet; ComponentLink1URL: http://www.chemi-con.co.jp/cgi-bin/CAT_DB/SEARCH/cat_db_al.cgi?e=e&j=p&pdfname=lxz; ComponentLink2Description: Digi-Key Listing; ComponentLink2URL: https://www.digikey.com/product-detail/en/united-chemi-con/ELXZ160ELL472ML30S/565-1944-ND/756460; Tolerance: 20%; Voltage: 16V; Price: 1.76; Device Package: Radial, Can, 16mm
footprint CAP AL TH D16 L7.5 H33.5
pins: 1, 2

## ELXZ160ELL681MJ16S
designator C?, comment 680uF  (value not drawn)
CAP ALUM 680UF 20% 16V RADIAL; Part Number: ELXZ160ELL681MJ16S; Manufacturer: United Chemi-Con; TemperatureRange: -55C ~ 105C; Type: Polar; Ripple Current: 630mA @ 120Hz; Impedance: 68 mOhm; Value: 680uF; PartId: 25312; Supplier 1: Digi-Key; Supplier Part Number 1: 565-1932-ND; ComponentLink1Description: Datasheet; ComponentLink1URL: http://www.chemi-con.co.jp/cgi-bin/CAT_DB/SEARCH/cat_db_al.cgi?e=e&j=p&pdfname=lxz; ComponentLink2Description: Digi-Key Listing; ComponentLink2URL: https://www.digikey.com/product-detail/en/united-chemi-con/ELXZ160ELL681MJ16S/565-1932-ND/756448; Tolerance: 20%; Voltage: 16V; Price: 0.65; Device Package: Radial, Can, 10mm
footprint CAP AL TH D10 L5 H17.5
pins: 1, 2

## ELXZ250ELL152MK25S
designator C?, comment 1500uF  (value not drawn)
CAP ALUM 1500UF 20% 25V RADIAL; Part Number: ELXZ250ELL152MK25S; Manufacturer: United Chemi-Con; TemperatureRange: -55C ~ 105C; Type: Polar; Ripple Current: 1.17A @ 120Hz; Impedance: 30 mOhm; Value: 1500uF; PartId: 23679; Supplier 1: Digi-Key; Supplier Part Number 1: 565-1963-ND; ComponentLink1Description: Datasheet; ComponentLink1URL: http://www.chemi-con.co.jp/cgi-bin/CAT_DB/SEARCH/cat_db_al.cgi?e=e&j=p&pdfname=lxz; ComponentLink2Description: Digi-Key Listing; ComponentLink2URL: https://www.digikey.com/product-detail/en/united-chemi-con/ELXZ250ELL152MK25S/565-1963-ND/756479; Tolerance: 20%; Voltage: 25V; Price: 1.02; Device Package: Radial, Can, 12.5mm
footprint CAP AL TH D12.5 L5 H26.5
pins: 1, 2

## ELXZ250ELL272ML25S
designator C?, comment 2700uF  (value not drawn)
CAP ALUM 2700UF 20% 25V RADIAL; Part Number: ELXZ250ELL272ML25S; Manufacturer: United Chemi-Con; TemperatureRange: -55C ~ 105C; Type: Polar; Ripple Current: 1.92A @ 120Hz; Impedance: 22 mOhm; Value: 2700uF; PartId: 26661; Supplier 1: Digi-Key; Supplier Part Number 1: 565-1969-ND; ComponentLink1Description: Datasheet; ComponentLink1URL: http://www.chemi-con.co.jp/cgi-bin/CAT_DB/SEARCH/cat_db_al.cgi?e=e&j=p&pdfname=lxz; ComponentLink2Description: Digi-Key Listing; ComponentLink2URL: https://www.digikey.com/product-detail/en/united-chemi-con/ELXZ250ELL272ML25S/565-1969-ND/756485; Tolerance: 20%; Voltage: 25V; Price: 1.62; Device Package: Radial, Can, 16mm
footprint CAP AL TH D16 L7.5 H26.5
pins: 1, 2

## ELXZ250ELL332ML30S
designator C?, comment 3300uF  (value not drawn)
CAP ALUM 3300UF 20% 25V RADIAL; Part Number: ELXZ250ELL332ML30S; Manufacturer: United Chemi-Con; TemperatureRange: -55C ~ 105C; Type: Polar; Ripple Current: 2.2575A @ 120Hz; Impedance: 19 mOhm; Value: 3300uF; PartId: 27077; Supplier 1: Digi-Key; Supplier Part Number 1: 565-1970-ND; ComponentLink1Description: Datasheet; ComponentLink1URL: http://www.chemi-con.co.jp/cgi-bin/CAT_DB/SEARCH/cat_db_al.cgi?e=e&j=p&pdfname=lxz; ComponentLink2Description: Digi-Key Listing; ComponentLink2URL: https://www.digikey.com/product-detail/en/united-chemi-con/ELXZ250ELL332ML30S/565-1970-ND/756486; Tolerance: 20%; Voltage: 25V; Price: 1.67; Device Package: Radial, Can, 16mm
footprint CAP AL TH D16 L7.5 H33.5
pins: 1, 2

## ELXZ250ELL392ML35S
designator C?, comment 3900uF  (value not drawn)
CAP ALUM 3900UF 20% 25V RADIAL; Part Number: ELXZ250ELL392ML35S; Manufacturer: United Chemi-Con; TemperatureRange: -55C ~ 105C; Type: Polar; Ripple Current: 2.3625A @ 120Hz; Impedance: 17 mOhm; Value: 3900uF; PartId: 27384; Supplier 1: Digi-Key; Supplier Part Number 1: 565-1972-ND; ComponentLink1Description: Datasheet; ComponentLink1URL: http://www.chemi-con.co.jp/cgi-bin/CAT_DB/SEARCH/cat_db_al.cgi?e=e&j=p&pdfname=lxz; ComponentLink2Description: Digi-Key Listing; ComponentLink2URL: https://www.digikey.com/product-detail/en/united-chemi-con/ELXZ250ELL392ML35S/565-1972-ND/756488; Tolerance: 20%; Voltage: 25V; Price: 1.86; Device Package: Radial, Can, 16mm
footprint CAP AL TH D16 L7.5 H37
pins: 1, 2

## ELXZ250ELL471MJ16S
designator C?, comment 470uF  (value not drawn)
CAP ALUM 470UF 20% 25V RADIAL; Part Number: ELXZ250ELL471MJ16S; Manufacturer: United Chemi-Con; TemperatureRange: -55C ~ 105C; Type: Polar; Ripple Current: 525mA @ 120Hz; Impedance: 68 mOhm; Value: 470uF; PartId: 25319; Supplier 1: Digi-Key; Supplier Part Number 1: 565-1958-ND; ComponentLink1Description: Datasheet; ComponentLink1URL: http://www.chemi-con.co.jp/cgi-bin/CAT_DB/SEARCH/cat_db_al.cgi?e=e&j=p&pdfname=lxz; ComponentLink2Description: Digi-Key Listing; ComponentLink2URL: https://www.digikey.com/product-detail/en/united-chemi-con/ELXZ250ELL471MJ16S/565-1958-ND/756474; Tolerance: 20%; Voltage: 25V; Price: 0.66; Device Package: Radial, Can, 10mm
footprint CAP AL TH D10 L5 H17.5
pins: 1, 2

## ELXZ250ELL681MJ20S
designator C?, comment 680uF  (value not drawn)
CAP ALUM 680UF 20% 25V RADIAL; Part Number: ELXZ250ELL681MJ20S; Manufacturer: United Chemi-Con; TemperatureRange: -55C ~ 105C; Type: Polar; Ripple Current: 732mA @ 120Hz; Impedance: 52 mOhm; Value: 680uF; PartId: 25541; Supplier 1: Digi-Key; Supplier Part Number 1: 565-1959-ND; ComponentLink1Description: Datasheet; ComponentLink1URL: http://www.chemi-con.co.jp/cgi-bin/CAT_DB/SEARCH/cat_db_al.cgi?e=e&j=p&pdfname=lxz; ComponentLink2Description: Digi-Key Listing; ComponentLink2URL: https://www.digikey.com/product-detail/en/united-chemi-con/ELXZ250ELL681MJ20S/565-1959-ND/756475; Tolerance: 20%; Voltage: 25V; Price: 0.62; Device Package: Radial, Can, 10mm
footprint CAP AL TH D10 L5 H22
pins: 1, 2

## ELXZ250ELL821MJ25S
designator C?, comment 820uF  (value not drawn)
CAP ALUM 820UF 20% 25V RADIAL; Part Number: ELXZ250ELL821MJ25S; Manufacturer: United Chemi-Con; TemperatureRange: -55C ~ 105C; Type: Polar; Ripple Current: 864mA @ 120Hz; Impedance: 45 mOhm; Value: 820uF; PartId: 26102; Supplier 1: Digi-Key; Supplier Part Number 1: 565-1960-ND; ComponentLink1Description: Datasheet; ComponentLink1URL: http://www.chemi-con.co.jp/cgi-bin/CAT_DB/SEARCH/cat_db_al.cgi?e=e&j=p&pdfname=lxz; ComponentLink2Description: Digi-Key Listing; ComponentLink2URL: https://www.digikey.com/product-detail/en/united-chemi-con/ELXZ250ELL821MJ25S/565-1960-ND/756476; Tolerance: 20%; Voltage: 25V; Price: 0.76; Device Package: Radial, Can, 10mm
footprint CAP AL TH D10 L5 H30
pins: 1, 2

## ELXZ350ELL102MK25S
designator C?, comment 1000uF  (value not drawn)
CAP ALUM 1000UF 20% 35V RADIAL; Part Number: ELXZ350ELL102MK25S; Manufacturer: United Chemi-Con; TemperatureRange: -55C ~ 105C; Type: Polar; Ripple Current: 1.17A @ 120Hz; Impedance: 30 mOhm; Value: 1000uF; PartId: 23683; Supplier 1: Digi-Key; Supplier Part Number 1: 565-1989-ND; ComponentLink1Description: Datasheet; ComponentLink1URL: http://www.chemi-con.co.jp/cgi-bin/CAT_DB/SEARCH/cat_db_al.cgi?e=e&j=p&pdfname=lxz; ComponentLink2Description: Digi-Key Listing; ComponentLink2URL: https://www.digikey.com/product-detail/en/united-chemi-con/ELXZ350ELL102MK25S/565-1989-ND/756505; Tolerance: 20%; Voltage: 35V; Price: 1.03; Device Package: Radial, Can, 12.5mm
footprint CAP AL TH D12.5 L5 H26.5
pins: 1, 2

## ELXZ350ELL122ML20S
designator C?, comment 1200uF  (value not drawn)
CAP ALUM 1200UF 20% 35V RADIAL; Part Number: ELXZ350ELL122ML20S; Manufacturer: United Chemi-Con; TemperatureRange: -55C ~ 105C; Type: Polar; Ripple Current: 1.326A @ 120Hz; Impedance: 29 mOhm; Value: 1200uF; PartId: 26331; Supplier 1: Digi-Key; Supplier Part Number 1: 565-1991-ND; ComponentLink1Description: Datasheet; ComponentLink1URL: http://www.chemi-con.co.jp/cgi-bin/CAT_DB/SEARCH/cat_db_al.cgi?e=e&j=p&pdfname=lxz; ComponentLink2Description: Digi-Key Listing; ComponentLink2URL: https://www.digikey.com/product-detail/en/united-chemi-con/ELXZ350ELL122ML20S/565-1991-ND/756507; Tolerance: 20%; Voltage: 35V; Price: 1.42; Device Package: Radial, Can, 16mm
footprint CAP AL TH D16 L7.5 H20
pins: 1, 2

## ELXZ350ELL182ML25S
designator C?, comment 1800uF  (value not drawn)
CAP ALUM 1800UF 20% 35V RADIAL; Part Number: ELXZ350ELL182ML25S; Manufacturer: United Chemi-Con; TemperatureRange: -55C ~ 105C; Type: Polar; Ripple Current: 1.536A @ 120Hz; Impedance: 22 mOhm; Value: 1800uF; PartId: 26663; Supplier 1: Digi-Key; Supplier Part Number 1: 565-1994-ND; ComponentLink1Description: Datasheet; ComponentLink1URL: http://www.chemi-con.co.jp/cgi-bin/CAT_DB/SEARCH/cat_db_al.cgi?e=e&j=p&pdfname=lxz; ComponentLink2Description: Digi-Key Listing; ComponentLink2URL: https://www.digikey.com/product-detail/en/united-chemi-con/ELXZ350ELL182ML25S/565-1994-ND/756510; Tolerance: 20%; Voltage: 35V; Price: 1.63; Device Package: Radial, Can, 16mm
footprint CAP AL TH D16 L7.5 H26.5
pins: 1, 2

## ELXZ350ELL222ML30S
designator C?, comment 2200uF  (value not drawn)
CAP ALUM 2200UF 20% 35V RADIAL; Part Number: ELXZ350ELL222ML30S; Manufacturer: United Chemi-Con; TemperatureRange: -55C ~ 105C; Type: Polar; Ripple Current: 2.2575A @ 120Hz; Impedance: 19 mOhm; Value: 2200uF; PartId: 27129; Supplier 1: Digi-Key; Supplier Part Number 1: 565-1996-ND; ComponentLink1Description: Datasheet; ComponentLink1URL: http://www.chemi-con.co.jp/cgi-bin/CAT_DB/SEARCH/cat_db_al.cgi?e=e&j=p&pdfname=lxz; ComponentLink2Description: Digi-Key Listing; ComponentLink2URL: https://www.digikey.com/product-detail/en/united-chemi-con/ELXZ350ELL222ML30S/565-1996-ND/756512; Tolerance: 20%; Voltage: 35V; Price: 1.78; Device Package: Radial, Can, 16mm
footprint CAP AL TH D16 L7.5 H33.5
pins: 1, 2

## ELXZ350ELL272ML35S
designator C?, comment 2700uF  (value not drawn)
CAP ALUM 2700UF 20% 35V RADIAL; Part Number: ELXZ350ELL272ML35S; Manufacturer: United Chemi-Con; TemperatureRange: -55C ~ 105C; Type: Polar; Ripple Current: 2.3625A @ 120Hz; Impedance: 17 mOhm; Value: 2700uF; PartId: 27350; Supplier 1: Digi-Key; Supplier Part Number 1: 565-1998-ND; ComponentLink1Description: Datasheet; ComponentLink1URL: http://www.chemi-con.co.jp/cgi-bin/CAT_DB/SEARCH/cat_db_al.cgi?e=e&j=p&pdfname=lxz; ComponentLink2Description: Digi-Key Listing; ComponentLink2URL: https://www.digikey.com/product-detail/en/united-chemi-con/ELXZ350ELL272ML35S/565-1998-ND/756514; Tolerance: 20%; Voltage: 35V; Price: 1.72; Device Package: Radial, Can, 16mm
footprint CAP AL TH D16 L7.5 H37
pins: 1, 2

## ELXZ350ELL331MJ16S
designator C?, comment 330uF  (value not drawn)
CAP ALUM 330UF 20% 35V RADIAL; Part Number: ELXZ350ELL331MJ16S; Manufacturer: United Chemi-Con; TemperatureRange: -55C ~ 105C; Type: Polar; Ripple Current: 525mA @ 120Hz; Impedance: 68 mOhm; Value: 330uF; PartId: 25329; Supplier 1: Digi-Key; Supplier Part Number 1: 565-1984-ND; ComponentLink1Description: Datasheet; ComponentLink1URL: http://www.chemi-con.co.jp/cgi-bin/CAT_DB/SEARCH/cat_db_al.cgi?e=e&j=p&pdfname=lxz; ComponentLink2Description: Digi-Key Listing; ComponentLink2URL: https://www.digikey.com/product-detail/en/united-chemi-con/ELXZ350ELL331MJ16S/565-1984-ND/756500; Tolerance: 20%; Voltage: 35V; Price: 0.67; Device Package: Radial, Can, 10mm
footprint CAP AL TH D10 L5 H17.5
pins: 1, 2

## ELXZ350ELL471MJ20S
designator C?, comment 470uF  (value not drawn)
CAP ALUM 470UF 20% 35V RADIAL; Part Number: ELXZ350ELL471MJ20S; Manufacturer: United Chemi-Con; TemperatureRange: -55C ~ 105C; Type: Polar; Ripple Current: 610mA @ 120Hz; Impedance: 52 mOhm; Value: 470uF; PartId: 25548; Supplier 1: Digi-Key; Supplier Part Number 1: 565-1985-ND; ComponentLink1Description: Datasheet; ComponentLink1URL: http://www.chemi-con.co.jp/cgi-bin/CAT_DB/SEARCH/cat_db_al.cgi?e=e&j=p&pdfname=lxz; ComponentLink2Description: Digi-Key Listing; ComponentLink2URL: https://www.digikey.com/product-detail/en/united-chemi-con/ELXZ350ELL471MJ20S/565-1985-ND/756501; Tolerance: 20%; Voltage: 35V; Price: 0.63; Device Package: Radial, Can, 10mm
footprint CAP AL TH D10 L5 H22
pins: 1, 2

## ELXZ350ELL561MJ25S
designator C?, comment 560uF  (value not drawn)
CAP ALUM 560UF 20% 35V RADIAL; Part Number: ELXZ350ELL561MJ25S; Manufacturer: United Chemi-Con; TemperatureRange: -55C ~ 105C; Type: Polar; Ripple Current: 720mA @ 120Hz; Impedance: 45 mOhm; Value: 560uF; PartId: 26112; Supplier 1: Digi-Key; Supplier Part Number 1: 565-1986-ND; ComponentLink1Description: Datasheet; ComponentLink1URL: http://www.chemi-con.co.jp/cgi-bin/CAT_DB/SEARCH/cat_db_al.cgi?e=e&j=p&pdfname=lxz; ComponentLink2Description: Digi-Key Listing; ComponentLink2URL: https://www.digikey.com/product-detail/en/united-chemi-con/ELXZ350ELL561MJ25S/565-1986-ND/756502; Tolerance: 20%; Voltage: 35V; Price: 0.77; Device Package: Radial, Can, 10mm
footprint CAP AL TH D10 L5 H30
pins: 1, 2

## ELXZ500ELL102ML25S
designator C?, comment 1000uF  (value not drawn)
CAP ALUM 1000UF 20% 50V RADIAL; Part Number: ELXZ500ELL102ML25S; Manufacturer: United Chemi-Con; TemperatureRange: -55C ~ 105C; Type: Polar; Ripple Current: 1.344A @ 120Hz; Impedance: 34 mOhm; Value: 1000uF; PartId: 26641; Supplier 1: Digi-Key; Supplier Part Number 1: 565-2007-ND; ComponentLink1Description: Datasheet; ComponentLink1URL: http://www.chemi-con.co.jp/cgi-bin/CAT_DB/SEARCH/cat_db_al.cgi?e=e&j=p&pdfname=lxz; ComponentLink2Description: Digi-Key Listing; ComponentLink2URL: https://www.digikey.com/product-detail/en/united-chemi-con/ELXZ500ELL102ML25S/565-2007-ND/756523; Tolerance: 20%; Voltage: 50V; Price: 1.52; Device Package: Radial, Can, 16mm
footprint CAP AL TH D16 L7.5 H26.5
pins: 1, 2

## ELXZ500ELL152ML35S
designator C?, comment 1500uF  (value not drawn)
CAP ALUM 1500UF 20% 50V RADIAL; Part Number: ELXZ500ELL152ML35S; Manufacturer: United Chemi-Con; TemperatureRange: -55C ~ 105C; Type: Polar; Ripple Current: 1.68A @ 120Hz; Impedance: 25 mOhm; Value: 1500uF; PartId: 27354; Supplier 1: Digi-Key; Supplier Part Number 1: 565-2012-ND; ComponentLink1Description: Datasheet; ComponentLink1URL: http://www.chemi-con.co.jp/cgi-bin/CAT_DB/SEARCH/cat_db_al.cgi?e=e&j=p&pdfname=lxz; ComponentLink2Description: Digi-Key Listing; ComponentLink2URL: https://www.digikey.com/product-detail/en/united-chemi-con/ELXZ500ELL152ML35S/565-2012-ND/756528; Tolerance: 20%; Voltage: 50V; Price: 1.76; Device Package: Radial, Can, 16mm
footprint CAP AL TH D16 L7.5 H37
pins: 1, 2

## ELXZ500ELL221MJ20S
designator C?, comment 220uF  (value not drawn)
CAP ALUM 220UF 20% 50V RADIAL; Part Number: ELXZ500ELL221MJ20S; Manufacturer: United Chemi-Con; TemperatureRange: -55C ~ 105C; Type: Polar; Ripple Current: 525mA @ 120Hz; Impedance: 88 mOhm; Value: 220uF; PartId: 25637; Supplier 1: Digi-Key; Supplier Part Number 1: 565-2017-ND; ComponentLink1Description: Datasheet; ComponentLink1URL: http://www.chemi-con.co.jp/cgi-bin/CAT_DB/SEARCH/cat_db_al.cgi?e=e&j=p&pdfname=lxz; ComponentLink2Description: Digi-Key Listing; ComponentLink2URL: https://www.digikey.com/product-detail/en/united-chemi-con/ELXZ500ELL221MJ20S/565-2017-ND/756533; Tolerance: 20%; Voltage: 50V; Price: 0.73; Device Package: Radial, Can, 10mm
footprint CAP AL TH D10 L5 H22
pins: 1, 2

## ELXZ500ELL331MJ25S
designator C?, comment 330uF  (value not drawn)
CAP ALUM 330UF 20% 50V RADIAL; Part Number: ELXZ500ELL331MJ25S; Manufacturer: United Chemi-Con; TemperatureRange: -55C ~ 105C; Type: Polar; Ripple Current: 625mA @ 120Hz; Impedance: 73 mOhm; Value: 330uF; PartId: 26101; Supplier 1: Digi-Key; Supplier Part Number 1: 565-2020-ND; ComponentLink1Description: Datasheet; ComponentLink1URL: http://www.chemi-con.co.jp/cgi-bin/CAT_DB/SEARCH/cat_db_al.cgi?e=e&j=p&pdfname=lxz; ComponentLink2Description: Digi-Key Listing; ComponentLink2URL: https://www.digikey.com/product-detail/en/united-chemi-con/ELXZ500ELL331MJ25S/565-2020-ND/756536; Tolerance: 20%; Voltage: 50V; Price: 0.75; Device Package: Radial, Can, 10mm
footprint CAP AL TH D10 L5 H30
pins: 1, 2

## ELXZ500ELL681MK30S
designator C?, comment 680uF  (value not drawn)
CAP ALUM 680UF 20% 50V RADIAL; Part Number: ELXZ500ELL681MK30S; Manufacturer: United Chemi-Con; TemperatureRange: -55C ~ 105C; Type: Polar; Ripple Current: 1.332A @ 120Hz; Impedance: 39 mOhm; Value: 680uF; PartId: 24280; Supplier 1: Digi-Key; Supplier Part Number 1: 565-2024-ND; ComponentLink1Description: Datasheet; ComponentLink1URL: http://www.chemi-con.co.jp/cgi-bin/CAT_DB/SEARCH/cat_db_al.cgi?e=e&j=p&pdfname=lxz; ComponentLink2Description: Digi-Key Listing; ComponentLink2URL: https://www.digikey.com/product-detail/en/united-chemi-con/ELXZ500ELL681MK30S/565-2024-ND/756540; Tolerance: 20%; Voltage: 50V; Price: 1.09; Device Package: Radial, Can, 12.5mm
footprint CAP AL TH D12.5 L5 H35.5
pins: 1, 2

## ELXZ630ELL101MJC5S
designator C?, comment 100uF  (value not drawn)
CAP ALUM 100UF 20% 63V RADIAL; Part Number: ELXZ630ELL101MJC5S; Manufacturer: United Chemi-Con; TemperatureRange: -55C ~ 105C; Type: Polar; Ripple Current: 216mA @ 120Hz; Impedance: 255 mOhm; Value: 100uF; PartId: 24947; Supplier 1: Digi-Key; Supplier Part Number 1: 565-2029-ND; ComponentLink1Description: Datasheet; ComponentLink1URL: http://www.chemi-con.co.jp/cgi-bin/CAT_DB/SEARCH/cat_db_al.cgi?e=e&j=p&pdfname=lxz; ComponentLink2Description: Digi-Key Listing; ComponentLink2URL: https://www.digikey.com/product-detail/en/united-chemi-con/ELXZ630ELL101MJC5S/565-2029-ND/756545; Tolerance: 20%; Voltage: 63V; Price: 0.52; Device Package: Radial, Can, 10mm
footprint CAP AL TH D10 L5 H14.5
pins: 1, 2